# Altium schematic symbol library Resistor_EU.SchLib: 1 symbol
Pins are listed as number, name and electrical type; pins without a type are passive.

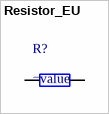
[diagram p0: symbol Resistor_EU]

## Resistor_EU
designator R?
pins: 1, 2